# EAGLE library part LTC3415 (library PowerProducts)
LT-Spice library generated with : ltspice.ulp from: D:/Program Files (x86)/LTC/LTspiceIV/lib/sym/PowerProducts/LTC3416*.asy at 07.10.2012 18:04:01
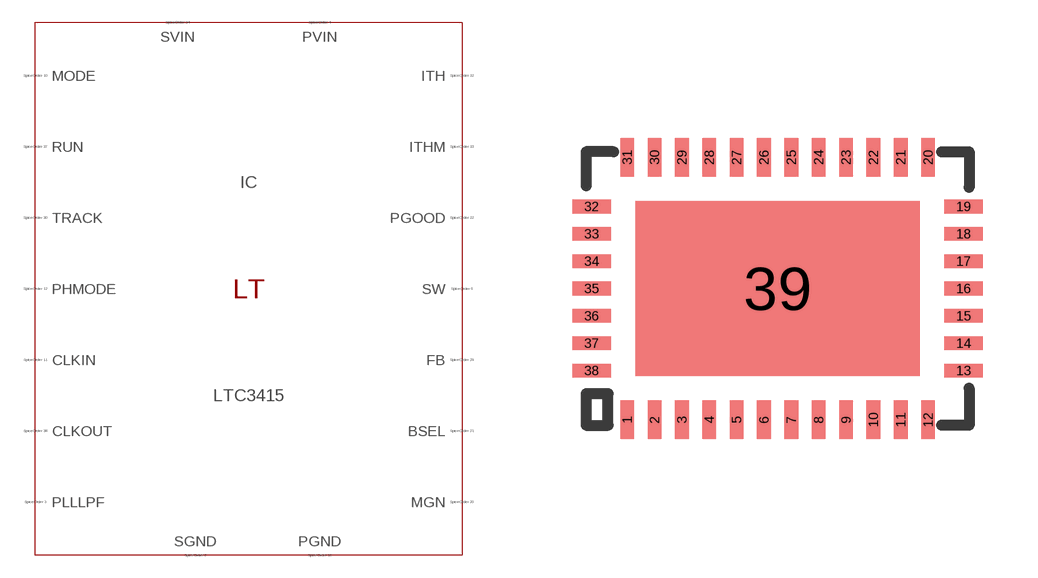
[diagram p175: symbol with the pads of QFN38(UHF); footprint QFN38(UHF)]

Designator prefix IC

## LTC3415 (SPICEMODEL: LTC3415.sub; SPICEPREFIX: X; VALUE2: LTC3415)  [QFN38(UHF)]
2  SGND  pas
3  PLLLPF  pas
4  PVIN  pas
5  PVIN  pas
6  SW  pas
7  SW  pas
8  SW  pas
9  SW  pas
10  MODE  pas
11  CLKIN  pas
12  PHMODE  pas
13  PGND  pas
14  PGND  pas
15  PGND  pas
16  PGND  pas
17  PGND  pas
18  PGND  pas
19  PGND  pas
20  MGN  pas
21  BSEL  pas
22  PGOOD  pas
23  SW  pas
24  SW  pas
25  SW  pas
26  SW  pas
27  PVIN  pas
28  PVIN  pas
29  FB  pas
30  TRACK  pas
32  ITH  pas
33  ITHM  pas
34  SVIN  pas
35  PVIN  pas
36  PVIN  pas
37  RUN  pas
38  CLKOUT  pas
39  PGND  pas

## Footprint QFN38(UHF) (pad centres in mm)
Package generated from: QFN38(UHF).asc (!PADS-POWERPCB-V5.0-BASIC! DESIGN DATABASE ASCII FILE 1.0) with :import-pads-powerpcb-v5.ulp Version 1.0.1 at 04.10.2012 14:11:28
smd 0.375 x 1.05: 1 -4.125,-3.6; 2 -3.375,-3.6; 3 -2.625,-3.6; 4 -1.875,-3.6; 5 -1.125,-3.6; 6 -0.375,-3.6; 7 0.375,-3.6; 8 1.125,-3.6; 9 1.875,-3.6; 10 2.625,-3.6; 11 3.375,-3.6; 12 4.125,-3.6; 20 4.125,3.6; 21 3.375,3.6; 22 2.625,3.6; 23 1.875,3.6; 24 1.125,3.6; 25 0.375,3.6; 26 -0.375,3.6; 27 -1.125,3.6; 28 -1.875,3.6; 29 -2.625,3.6; 30 -3.375,3.6; 31 -4.125,3.6
smd 1.05 x 0.375: 13 5.1,-2.25; 14 5.1,-1.5; 15 5.1,-0.75; 16 5.1,0; 17 5.1,0.75; 18 5.1,1.5; 19 5.1,2.25; 32 -5.1,2.25; 33 -5.1,1.5; 34 -5.1,0.75; 35 -5.1,0; 36 -5.1,-0.75; 37 -5.1,-1.5; 38 -5.1,-2.25
smd 7.8 x 4.8: 39 0,0